# Altium footprint library 107SML016M.PcbLib: 3 footprints
Each footprint in its own frame and in the unit in brackets; x right, y up, seen from the top. Pads: shape width x height; smd on the part's side, far side on the other; paste and mask are expansions set on the pad; w line width, h text height; cw(c..) or ccw(c..) is an arc to the next point about the centre after c.
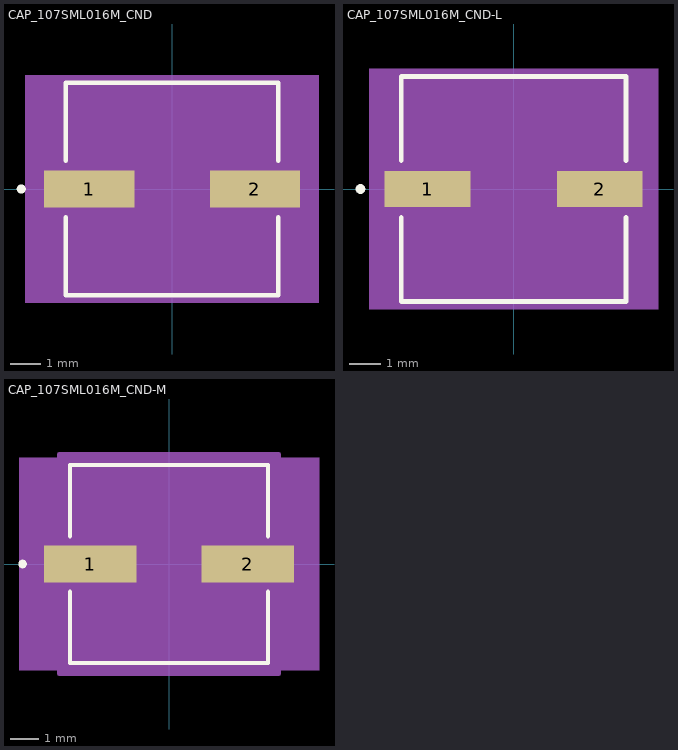
[diagram p0: the footprints below, top view; thin cyan lines are the x and y axes]

## CAP_107SML016M_CND [mil]
pads (2):
  rect 118x48 smd paste+0 mask+0: 1(-108.5,0) 2(108.5,0)
Top Overlay:
  circle w6: c-197.5,0 r3
  lines w6: -139,-37.1 -139,-139 139,-139 139,-37.1 ; -139,37.1 -139,139 139,139 139,37.1
Mechanical 5:
  region: 192.5,-149 -192.5,-149 -192.5,149 192.5,149
Mechanical 13:
  circle w0: c-114,0 r3
  lines w1: -134,-67 -67,-134 ; -134,67 -67,134 ; -134,-134 134,-134 134,134 -134,134 -134,-134
Mechanical 15:
  region: -144,-34 -177.5,-34 -177.5,34 -144,34 -144,144 144,144 144,34 177.5,34 177.5,-34 144,-34 144,-144 -144,-144
  lines w6: -177.5,-34 -177.5,34 -144,34 -144,144 144,144 144,34 177.5,34 177.5,-34 144,-34 144,-144 -144,-144 -144,-34 -177.5,-34
3D body "CAP_107SML016M_CND.step": height 226.1, standoff 0, extent -147.48,-134.02 147.48,134.02

## CAP_107SML016M_CND-L [mil]
pads (2):
  rect 106x44 smd paste+0 mask+0: 1(-106.5,0) 2(106.5,0)
Top Overlay:
  circle w6: c-189.5,0 r3
  lines w6: -139,-35.1 -139,-139 139,-139 139,-35.1 ; -139,35.1 -139,139 139,139 139,35.1
Mechanical 5:
  region: 178.5,-149 -178.5,-149 -178.5,149 178.5,149
Mechanical 13:
  circle w0: c-114,0 r3
  lines w1: -134,-67 -67,-134 ; -134,67 -67,134 ; -134,-134 134,-134 134,134 -134,134 -134,-134
Mechanical 15:
  region: -138,-26 -163.5,-26 -163.5,26 -138,26 -138,138 138,138 138,26 163.5,26 163.5,-26 138,-26 138,-138 -138,-138
  lines w6: -163.5,-26 -163.5,26 -138,26 -138,138 138,138 138,26 163.5,26 163.5,-26 138,-26 138,-138 -138,-138 -138,-26 -163.5,-26
3D body "CAP_107SML016M_CND.step": height 226.1, standoff 0, extent -147.48,-134.02 147.48,134.02

## CAP_107SML016M_CND-M [mil]
pads (2):
  rect 130x52 smd paste+0 mask+0: 1(-110.5,0) 2(110.5,0)
Top Overlay:
  circle w6: c-205.5,0 r3
  lines w6: -139,-39.1 -139,-139 139,-139 139,-39.1 ; -139,39.1 -139,139 139,139 139,39.1
Mechanical 5:
  region: 210.5,-149 -210.5,-149 -210.5,149 210.5,149
Mechanical 13:
  circle w0: c-114,0 r3
  lines w1: -134,-67 -67,-134 ; -134,67 -67,134 ; -134,-134 134,-134 134,134 -134,134 -134,-134
Mechanical 15:
  region: -154,-46 -195.5,-46 -195.5,46 -154,46 -154,154 154,154 154,46 195.5,46 195.5,-46 154,-46 154,-154 -154,-154
  lines w6: -195.5,-46 -195.5,46 -154,46 -154,154 154,154 154,46 195.5,46 195.5,-46 154,-46 154,-154 -154,-154 -154,-46 -195.5,-46
3D body "CAP_107SML016M_CND.step": height 226.1, standoff 0, extent -147.48,-134.02 147.48,134.02